# EAGLE library part LSM9DS1TR9AXISIMU (library custom)
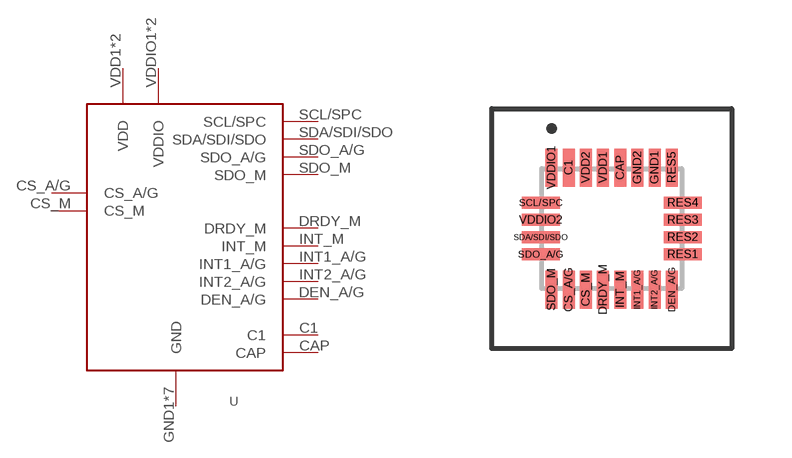
[diagram p0: symbol with the pads of LSM9DS1TR9-AXISIMU; footprint LSM9DS1TR9-AXISIMU]

Designator prefix U

## LSM9DS1TR9AXISIMU-ACCEL/GYRO/MAGI2C/SPI24LGA (CREATOR: rketch; DIST: Digikey; DISTPN: 497-14946-1-ND)  [LSM9DS1TR9-AXISIMU]
C1  C1
CAP  CAP
CS_A/G  CS_A/G
CS_M  CS_M
DEN_A/G  DEN_A/G
DRDY_M  DRDY_M
GND1  GND
GND2  GND
INT1_A/G  INT1_A/G
INT2_A/G  INT2_A/G
INT_M  INT_M
RES1  GND
RES2  GND
RES3  GND
RES4  GND
RES5  GND
SCL/SPC  SCL/SPC
SDA/SDI/SDO  SDA/SDI/SDO
SDO_A/G  SDO_A/G
SDO_M  SDO_M
VDD1  VDD
VDD2  VDD
VDDIO1  VDDIO
VDDIO2  VDDIO

## Footprint LSM9DS1TR9-AXISIMU (pad centres in mm)
smd 0.3 x 0.95: C1 -1.075,1.525; CAP 0.215,1.525; CS_A/G -1.075,-1.525; CS_M -0.645,-1.525; DEN_A/G 1.505,-1.525; DRDY_M -0.215,-1.525; GND1 1.075,1.525; GND2 0.645,1.525; INT1_A/G 0.645,-1.525; INT2_A/G 1.075,-1.525; INT_M 0.215,-1.525; RES5 1.505,1.525; SDO_M -1.505,-1.525; VDD1 -0.215,1.525; VDD2 -0.645,1.525; VDDIO1 -1.505,1.525
smd 0.95 x 0.3: RES1 1.775,-0.645; RES2 1.775,-0.215; RES3 1.775,0.215; RES4 1.775,0.645; SCL/SPC -1.775,0.645; SDA/SDI/SDO -1.775,-0.215; SDO_A/G -1.775,-0.645; VDDIO2 -1.775,0.215